# Altium schematic symbol library Analog_ADC.SchLib: 158 symbols (part 3 of 3)
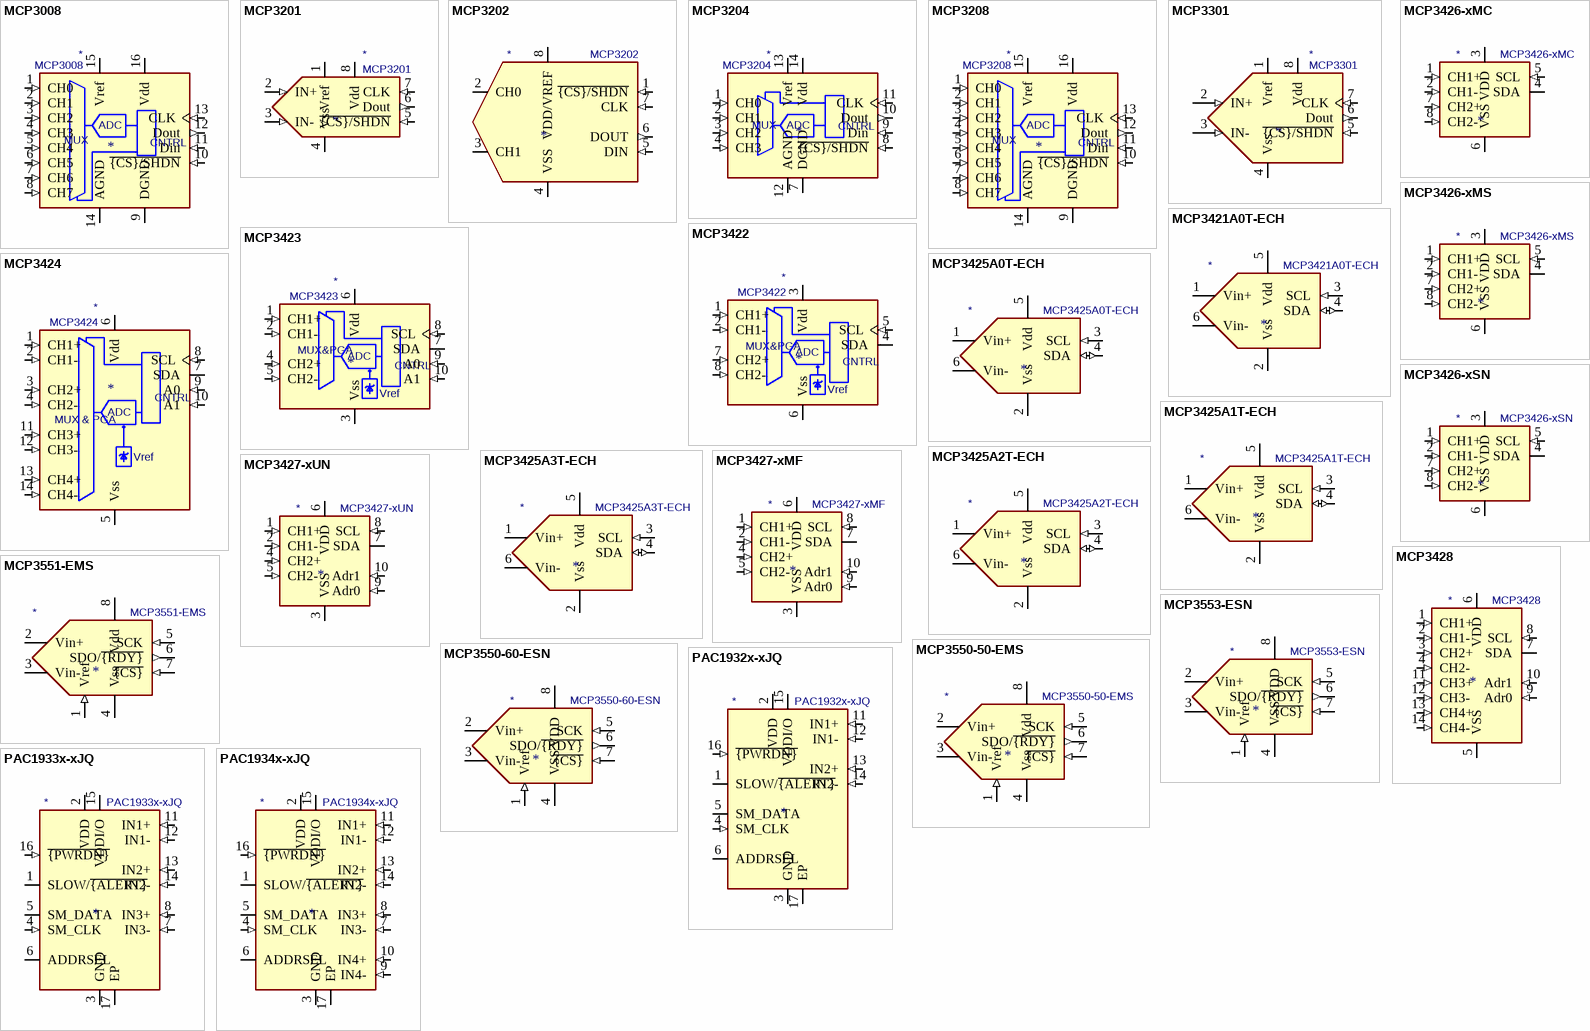
[diagram p7: symbols MCP3008 to PAC1934x-xJQ]

## MCP3423
designator *  value MCP3423
ki_keywords: 18-Bit ADC I2C IIC I²C Delta-Sigma-ADC Delta-Sigma-ADC Reference 2ch; ki_description: 2-Channel, 18-Bit, Delta-Sigma AD-Converter, I²C Interface, Reference, MSOP; ki_fp_filters: MSOP*3x3mm*P0.5mm*; Footprint: Package_SO:MSOP-10_3x3mm_P0.5mm; Supplier: http://ww1.microchip.com/downloads/en/DeviceDoc/22088c.pdf
footprint MSOP-10_3x3mm_P0.5mm
pins: 1 CH1+ (in), 2 CH1- (in), 3 Vss (power), 4 CH2+ (in), 5 CH2- (in), 6 Vdd (power), 7 SDA (io), 8 SCL (in), 9 A0 (in), 10 A1 (in)
text: MUX&PGA; ADC; CNTRL; Vref

## MCP3424
designator *  value MCP3424
ki_keywords: 18-Bit ADC I2C IIC I²C Delta-Sigma-ADC Delta-Sigma-ADC Reference 4ch; ki_description: 4-Channel, 18-Bit, Delta-Sigma AD-Converter, I²C Interface, Reference; ki_fp_filters: SOIC*3.9x8.7mm*P1.27mm* TSSOP*4.4x5mm*P0.65mm*; Supplier: http://ww1.microchip.com/downloads/en/DeviceDoc/22088c.pdf
pins: 1 CH1+ (in), 2 CH1- (in), 3 CH2+ (in), 4 CH2- (in), 5 Vss (power), 6 Vdd (power), 7 SDA (io), 8 SCL (in), 9 A0 (in), 10 A1 (in), 11 CH3+ (in), 12 CH3- (in), 13 CH4+ (in), 14 CH4- (in)
text: CNTRL; ADC; MUX & PGA; Vref

## MCP3425A0T-ECH
designator *  value MCP3425A0T-ECH
ki_keywords: Sigma-Delta ADC Converter 16bit I2C  1ch; ki_description: Single Delta-Sigma 16bit Analog to Digital Converter, I2C Interface, SOT-23-6; ki_fp_filters: SOT?23* SOT?23*; Supplier: http://ww1.microchip.com/downloads/en/DeviceDoc/22072b.pdf
pins: 1 Vin+, 2 Vss (power), 3 SCL (in), 4 SDA (io), 5 Vdd (power), 6 Vin-

## MCP3425A1T-ECH
designator *  value MCP3425A1T-ECH
ki_keywords: Sigma-Delta ADC Converter 16bit I2C 1ch; ki_description: Single Delta-Sigma 16bit Analog to Digital Converter, I2C Interface, SOT-23-6; ki_fp_filters: SOT?23* SOT?23*; Supplier: http://ww1.microchip.com/downloads/en/DeviceDoc/22072b.pdf
pins: 1 Vin+, 2 Vss (power), 3 SCL (in), 4 SDA (io), 5 Vdd (power), 6 Vin-

## MCP3425A2T-ECH
designator *  value MCP3425A2T-ECH
ki_keywords: Sigma-Delta ADC Converter 16bit I2C 1ch; ki_description: Single Delta-Sigma 16bit Analog to Digital Converter, I2C Interface, SOT-23-6; ki_fp_filters: SOT?23* SOT?23*; Supplier: http://ww1.microchip.com/downloads/en/DeviceDoc/22072b.pdf
pins: 1 Vin+, 2 Vss (power), 3 SCL (in), 4 SDA (io), 5 Vdd (power), 6 Vin-

## MCP3425A3T-ECH
designator *  value MCP3425A3T-ECH
ki_keywords: Sigma-Delta ADC Converter 16bit I2C 1ch; ki_description: Single Delta-Sigma 16bit Analog to Digital Converter, I2C Interface, SOT-23-6; ki_fp_filters: SOT?23* SOT?23*; Supplier: http://ww1.microchip.com/downloads/en/DeviceDoc/22072b.pdf
pins: 1 Vin+, 2 Vss (power), 3 SCL (in), 4 SDA (io), 5 Vdd (power), 6 Vin-

## MCP3426-xMC
designator *  value MCP3426-xMC
ki_keywords: adc 2ch 16bit i2c; ki_description: 16-Bit, Multi-Channel ΔΣ Analog-to-Digital Converter with I2C Interface and On-Board Reference, DFN-8; ki_fp_filters: DFN*3x2mm*P0.5mm*; Footprint: Package_DFN_QFN:DFN-8-1EP_3x2mm_P0.5mm_EP1.75x1.45mm; Supplier: http://ww1.microchip.com/downloads/en/DeviceDoc/22226a.pdf
footprint DFN-8-1EP_3x2mm_P0.5mm_EP1.75x1.45mm
pins: 1 CH1+ (in), 2 CH1- (in), 3 VDD (power), 4 SDA (io), 5 SCL (in), 6 VSS (power), 7 CH2+ (in), 8 CH2- (in), 9 VSS hidden

## MCP3426-xMS
designator *  value MCP3426-xMS
ki_keywords: adc 2ch 16bit i2c; ki_description: 16-Bit, Multi-Channel ΔΣ Analog-to-Digital Converter with I2C Interface and On-Board Reference, MSOP-8; ki_fp_filters: MSOP*3x3mm*P0.65mm* SOIC*3.9x4.9mm*P1.27mm*; Supplier: http://ww1.microchip.com/downloads/en/DeviceDoc/22226a.pdf
pins: 1 CH1+ (in), 2 CH1- (in), 3 VDD (power), 4 SDA (io), 5 SCL (in), 6 VSS (power), 7 CH2+ (in), 8 CH2- (in)

## MCP3426-xSN
designator *  value MCP3426-xSN
ki_keywords: adc 2ch 16bit i2c; ki_description: 16-Bit, Multi-Channel ΔΣ Analog-to-Digital Converter with I2C Interface and On-Board Reference, SOIC-8; ki_fp_filters: MSOP*3x3mm*P0.65mm* SOIC*3.9x4.9mm*P1.27mm*; Supplier: http://ww1.microchip.com/downloads/en/DeviceDoc/22226a.pdf
pins: 1 CH1+ (in), 2 CH1- (in), 3 VDD (power), 4 SDA (io), 5 SCL (in), 6 VSS (power), 7 CH2+ (in), 8 CH2- (in)

## MCP3427-xMF
designator *  value MCP3427-xMF
ki_keywords: adc 2ch 16bit i2c; ki_description: 16-Bit, Multi-Channel ΔΣ Analog-to-Digital Converter with I2C Interface and On-Board Reference, DFN-10; ki_fp_filters: DFN*3x3mm*P0.5mm*; Footprint: Package_DFN_QFN:DFN-8-1EP_3x3mm_P0.5mm_EP1.66x2.38mm; Supplier: http://ww1.microchip.com/downloads/en/DeviceDoc/22226a.pdf
footprint DFN-8-1EP_3x3mm_P0.5mm_EP1.66x2.38mm
pins: 1 CH1+ (in), 2 CH1- (in), 3 VSS (power), 4 CH2+ (in), 5 CH2- (in), 6 VDD (power), 7 SDA (io), 8 SCL (in), 9 Adr0 (in), 10 Adr1 (in), 11 VSS hidden

## MCP3427-xUN
designator *  value MCP3427-xUN
ki_keywords: adc 2ch 16bit i2c; ki_description: 16-Bit, Multi-Channel ΔΣ Analog-to-Digital Converter with I2C Interface and On-Board Reference, MSOP-10; ki_fp_filters: MSOP*3x3mm*P0.5mm*; Footprint: Package_SO:MSOP-10_3x3mm_P0.5mm; Supplier: http://ww1.microchip.com/downloads/en/DeviceDoc/22226a.pdf
footprint MSOP-10_3x3mm_P0.5mm
pins: 1 CH1+ (in), 2 CH1- (in), 3 VSS (power), 4 CH2+ (in), 5 CH2- (in), 6 VDD (power), 7 SDA (io), 8 SCL (in), 9 Adr0 (in), 10 Adr1 (in)

## MCP3428
designator *  value MCP3428
ki_keywords: adc 4ch 16bit i2c; ki_description: 16-Bit, Multi-Channel ΔΣ Analog-to-Digital Converter with I2C Interface and On-Board Reference, SOIC-14/TSSOP-14; ki_fp_filters: TSSOP*4.4x5mm*P0.65mm* SOIC*3.9x8.7mm*P1.27mm*; Supplier: http://ww1.microchip.com/downloads/en/DeviceDoc/22226a.pdf
pins: 1 CH1+ (in), 2 CH1- (in), 3 CH2+ (in), 4 CH2- (in), 5 VSS (power), 6 VDD (power), 7 SDA (io), 8 SCL (in), 9 Adr0 (in), 10 Adr1 (in), 11 CH3+ (in), 12 CH3- (in), 13 CH4+ (in), 14 CH4- (in)

## MCP3550-50-EMS
designator *  value MCP3550-50-EMS
ki_keywords: Sigma-Delta ADC Converter 22bit SPI 1ch; ki_description: Single Delta-Sigma 22bit Analog to Digital Converter, SPI Interface, 50Hz Rejection, MSOP-8; ki_fp_filters: MSOP*; Supplier: http://ww1.microchip.com/downloads/en/devicedoc/21950c.pdf
pins: 1 Vref (in), 2 Vin+, 3 Vin-, 4 Vss (power), 5 SCK (in), 6 SDO/~{{RDY}} (out), 7 ~{{CS}} (in), 8 Vdd (power)

## MCP3550-60-ESN
designator *  value MCP3550-60-ESN
ki_keywords: Sigma-Delta ADC Converter 22bit SPI 1ch; ki_description: Single Delta-Sigma 22bit Analog to Digital Converter, SPI Interface, 60Hz Rejection, MSOP-8; ki_fp_filters: SO*; Supplier: http://ww1.microchip.com/downloads/en/devicedoc/21950c.pdf
pins: 1 Vref (in), 2 Vin+, 3 Vin-, 4 VSS (power), 5 SCK (in), 6 SDO/~{{RDY}} (out), 7 ~{{CS}} (in), 8 VDD (power)

## MCP3551-EMS
designator *  value MCP3551-EMS
ki_keywords: Sigma-Delta ADC Converter 22bit SPI 1ch; ki_description: Single Delta-Sigma 22bit Analog to Digital Converter, SPI Interface, MSOP-8; ki_fp_filters: MSOP*; Supplier: http://ww1.microchip.com/downloads/en/devicedoc/21950c.pdf
pins: 1 Vref (in), 2 Vin+, 3 Vin-, 4 Vss (power), 5 SCK (in), 6 SDO/~{{RDY}} (out), 7 ~{{CS}} (in), 8 Vdd (power)

## MCP3553-ESN
designator *  value MCP3553-ESN
ki_keywords: Sigma-Delta ADC Converter 22bit SPI 1ch; ki_description: Single Delta-Sigma 22bit Analog to Digital Converter, SPI Interface, MSOP-8; ki_fp_filters: SO*; Supplier: http://ww1.microchip.com/downloads/en/devicedoc/21950c.pdf
pins: 1 Vref (in), 2 Vin+, 3 Vin-, 4 VSS (power), 5 SCK (in), 6 SDO/~{{RDY}} (out), 7 ~{{CS}} (in), 8 VDD (power)

## PAC1932x-xJQ
designator *  value PAC1932x-xJQ
ki_keywords: I2C Current Shunt Energy Monitor; ki_description: Multi-Channel DC Power/Energy Monitor with Accumulator, UQFN-16; ki_fp_filters: UQFN*1EP*4x4mm*P0.65mm*; Footprint: Package_DFN_QFN:UQFN-16-1EP_4x4mm_P0.65mm_EP2.7x2.7mm; Supplier: http://ww1.microchip.com/downloads/en/DeviceDoc/PAC1931-Family-Data-Sheet-DS20005850E.pdf
footprint UQFN-16-1EP_4x4mm_P0.65mm_EP2.7x2.7mm
pins: 1 SLOW/~{{ALERT}} (oc), 2 VDD (power), 3 GND (power), 4 SM_CLK (in), 5 SM_DATA (io), 6 ADDRSEL, 7 GND hidden, 8 GND hidden, 9 GND hidden, 10 GND hidden, 11 IN1+ (in), 12 IN1- (in), 13 IN2+ (in), 14 IN2- (in), 15 VDDI/O (power), 16 ~{{PWRDN}} (in), 17 EP (power)

## PAC1933x-xJQ
designator *  value PAC1933x-xJQ
ki_keywords: I2C Current Shunt Energy Monitor; ki_description: Multi-Channel DC Power/Energy Monitor with Accumulator, UQFN-16; ki_fp_filters: UQFN*1EP*4x4mm*P0.65mm*; Footprint: Package_DFN_QFN:UQFN-16-1EP_4x4mm_P0.65mm_EP2.7x2.7mm; Supplier: http://ww1.microchip.com/downloads/en/DeviceDoc/PAC1931-Family-Data-Sheet-DS20005850E.pdf
footprint UQFN-16-1EP_4x4mm_P0.65mm_EP2.7x2.7mm
pins: 1 SLOW/~{{ALERT}} (oc), 2 VDD (power), 3 GND (power), 4 SM_CLK (in), 5 SM_DATA (io), 6 ADDRSEL, 7 IN3- (in), 8 IN3+ (in), 9 GND hidden, 10 GND hidden, 11 IN1+ (in), 12 IN1- (in), 13 IN2+ (in), 14 IN2- (in), 15 VDDI/O (power), 16 ~{{PWRDN}} (in), 17 EP (power)

## PAC1934x-xJQ
designator *  value PAC1934x-xJQ
ki_keywords: I2C Current Shunt Energy Monitor; ki_description: Multi-Channel DC Power/Energy Monitor with Accumulator, UQFN-16; ki_fp_filters: UQFN*1EP*4x4mm*P0.65mm*; Footprint: Package_DFN_QFN:UQFN-16-1EP_4x4mm_P0.65mm_EP2.7x2.7mm; Supplier: http://ww1.microchip.com/downloads/en/DeviceDoc/PAC1931-Family-Data-Sheet-DS20005850E.pdf
footprint UQFN-16-1EP_4x4mm_P0.65mm_EP2.7x2.7mm
pins: 1 SLOW/~{{ALERT}} (oc), 2 VDD (power), 3 GND (power), 4 SM_CLK (in), 5 SM_DATA (io), 6 ADDRSEL, 7 IN3- (in), 8 IN3+ (in), 9 IN4- (in), 10 IN4+ (in), 11 IN1+ (in), 12 IN1- (in), 13 IN2+ (in), 14 IN2- (in), 15 VDDI/O (power), 16 ~{{PWRDN}} (in), 17 EP (power)